# Altium schematic symbol library CFAG12864K_MODULE.Schlib: 1 symbol
Pins are listed as number, name and electrical type; pins without a type are passive.

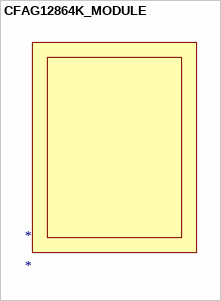
[diagram p0: symbol CFAG12864K_MODULE]

## CFAG12864K_MODULE
designator *